# Altium footprint library AltiumDesigner.PcbLib: 3 footprints
Each footprint in its own frame and in the unit in brackets; x right, y up, seen from the top. Pads: shape width x height; smd on the part's side, far side on the other; paste and mask are expansions set on the pad; w line width, h text height; cw(c..) or ccw(c..) is an arc to the next point about the centre after c.
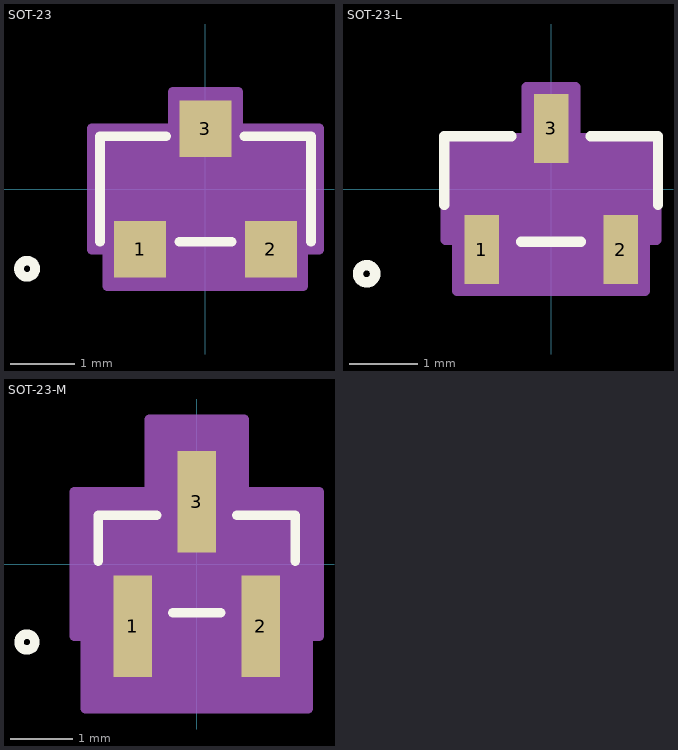
[diagram p0: the footprints below, top view; thin cyan lines are the x and y axes]

## SOT-23 [mil]
pads (3):
  rect 32x35 smd paste+0 mask+0: 1(-40.35,-37.2) 2(40.35,-37.2) 3(0,37.2)
Top Overlay:
  circle w6: c-110.04,-49.21 r5
  lines w6: -65.04,-32.56 -65.04,32.56 -24.14,32.56 ; -16.21,-32.56 16.21,-32.56 ; 24.14,32.56 65.04,32.56 65.04,-32.56
Mechanical 13:
  circle w0: c-50.04,-17.56 r5
  lines w1: -60.04,-27.56 60.04,-27.56 60.04,27.56 -60.04,27.56 -60.04,-27.56 ; -50.39,-49.21 -50.39,-27.56 -30.32,-27.56 -30.32,-49.21 -50.39,-49.21 ; -10.04,27.56 10.04,27.56 10.04,49.21 -10.04,49.21 -10.04,27.56 ; 30.32,-49.21 30.32,-27.56 50.39,-27.56 50.39,-49.21 30.32,-49.21
Mechanical 15:
  region: -70.04,-37.56 -70.04,37.56 -20.04,37.56 -20.04,60 20,60 20.04,37.56 70.04,37.56 70.04,-37.56 60.39,-37.56 60.39,-60 -60.39,-60 -60.39,-37.56
  region: 60.04,-27.56 -60.04,-27.56 -60.04,27.56 60.04,27.56
  lines w6: -60.39,-60 -60.39,-37.56 -70.04,-37.56 -70.04,37.56 -20.04,37.56 -20,60 ; -60,-60 60,-60 ; -20.04,60 20.04,60 20.04,37.56 70.04,37.56 70.04,-37.56 60.39,-37.56 60.39,-60
3D body: height 10, standoff 0, extent 0,0 10,10

## SOT-23-L [mm]
pads (3):
  rect 0.51x1.016 smd paste+0 mask+0: 1(-1.025,-0.894) 2(1.025,-0.894) 3(0,0.894)
Top Overlay:
  circle w0.152: c-2.72,-1.25 r0.127
  lines w0.152: -1.577,-0.236 -1.577,0.777 -0.588,0.777 ; -0.437,-0.777 0.437,-0.777 ; 0.588,0.777 1.577,0.777 1.577,-0.236
Mechanical 13:
  circle w0: c-1.196,-0.396 r0.127
  lines w0.025: -1.45,-0.65 1.45,-0.65 1.45,0.65 -1.45,0.65 -1.45,-0.65 ; -1.28,-1.25 -1.28,-0.65 -0.77,-0.65 -0.77,-1.25 -1.28,-1.25 ; -0.255,0.65 0.255,0.65 0.255,1.25 -0.255,1.25 -0.255,0.65 ; 0.77,-1.25 0.77,-0.65 1.28,-0.65 1.28,-1.25 0.77,-1.25
Mechanical 15:
  region: -1.552,-0.752 -1.552,0.752 -0.357,0.752 -0.357,1.504 0.357,1.504 0.357,0.752 1.552,0.752 1.552,-0.752 1.382,-0.752 1.382,-1.504 -1.382,-1.504 -1.382,-0.752
  region: 1.45,-0.65 -1.45,-0.65 -1.45,0.65 1.45,0.65
  lines w0.152: -1.552,-0.752 -1.552,0.752 -0.357,0.752 -0.357,1.504 0.357,1.504 0.357,0.752 1.552,0.752 1.552,-0.752 1.382,-0.752 1.382,-1.504 -1.382,-1.504 -1.382,-0.752 -1.552,-0.752
3D body: height 0.25, standoff 0, extent 0,0 0.254,0.254

## SOT-23-M [mm]
pads (3):
  rect 0.612x1.626 smd paste+0 mask+0: 1(-1.025,-0.996) 2(1.025,-0.996) 3(0,0.996)
Top Overlay:
  circle w0.152: c-2.72,-1.25 r0.127
  lines w0.152: -1.577,0.041 -1.577,0.777 -0.639,0.777 ; -0.386,-0.777 0.386,-0.777 ; 0.639,0.777 1.577,0.777 1.577,0.041
Mechanical 13:
  circle w0: c-1.196,-0.396 r0.127
  lines w0.025: -1.45,-0.65 1.45,-0.65 1.45,0.65 -1.45,0.65 -1.45,-0.65 ; -1.28,-1.25 -1.28,-0.65 -0.77,-0.65 -0.77,-1.25 -1.28,-1.25 ; -0.255,0.65 0.255,0.65 0.255,1.25 -0.255,1.25 -0.255,0.65 ; 0.77,-1.25 0.77,-0.65 1.28,-0.65 1.28,-1.25 0.77,-1.25
Mechanical 15:
  region: -1.958,-1.158 -1.958,1.158 -0.763,1.158 -0.763,2.317 0.763,2.317 0.763,1.158 1.958,1.158 1.958,-1.158 1.788,-1.158 1.788,-2.317 -1.788,-2.317 -1.788,-1.158
  region: 1.45,-0.65 -1.45,-0.65 -1.45,0.65 1.45,0.65
  lines w0.152: -1.958,-1.158 -1.958,1.158 -0.763,1.158 -0.763,2.317 0.763,2.317 0.763,1.158 1.958,1.158 1.958,-1.158 1.788,-1.158 1.788,-2.317 -1.788,-2.317 -1.788,-1.158 -1.958,-1.158
3D body: height 0.25, standoff 0, extent 0,0 0.254,0.254